# EAGLE library part RFD900 (library RFD900)
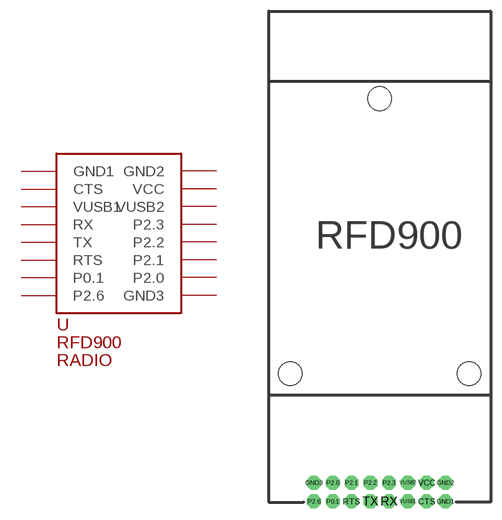
[diagram p0: symbol with the pads of RFD900_NEW; footprint RFD900_NEW]

Designator prefix -

## RFD900  [RFD900_NEW]
CTS  CTS
GND1  GND1
GND2  GND2
GND3  GND3
P0.1  P0.1
P2.0  P2.0
P2.1  P2.1
P2.2  P2.2
P2.3  P2.3
P2.6  P2.6
RTS  RTS
RX  RX
TX  TX
VCC  VCC
VUSB1  VUSB1
VUSB2  VUSB2

## Footprint RFD900_NEW (pad centres in mm)
Package generated by make-group2pac.ulp from: /home/lkm1321/eagle/USyd-Sat/RFD900/RFD900/RFD900.brd at: 3/04/2016 10:04 PM
drill 1.016 pad 1.88 octagon: CTS 21.36,0.1; GND1 23.9,0.1; GND2 23.9,2.64; GND3 6.12,2.64; P0.1 8.66,0.1; P2.0 8.66,2.64; P2.1 11.2,2.64; P2.2 13.74,2.64; P2.3 16.28,2.64; P2.6 6.12,0.1; RTS 11.2,0.1; RX 16.28,0.1; TX 13.74,0.1; VCC 21.36,2.64; VUSB1 18.82,0.1; VUSB2 18.82,2.64
hole 3.2 at 2.9,17.4
hole 3.2 at 27.1,17.4
hole 3.2 at 15,54.6